# Altium footprint library SMD.PcbLib: 8 footprints
Each footprint in its own frame and in the unit in brackets; x right, y up, seen from the top. Pads: shape width x height; smd on the part's side, far side on the other; paste and mask are expansions set on the pad; w line width, h text height; cw(c..) or ccw(c..) is an arc to the next point about the centre after c.
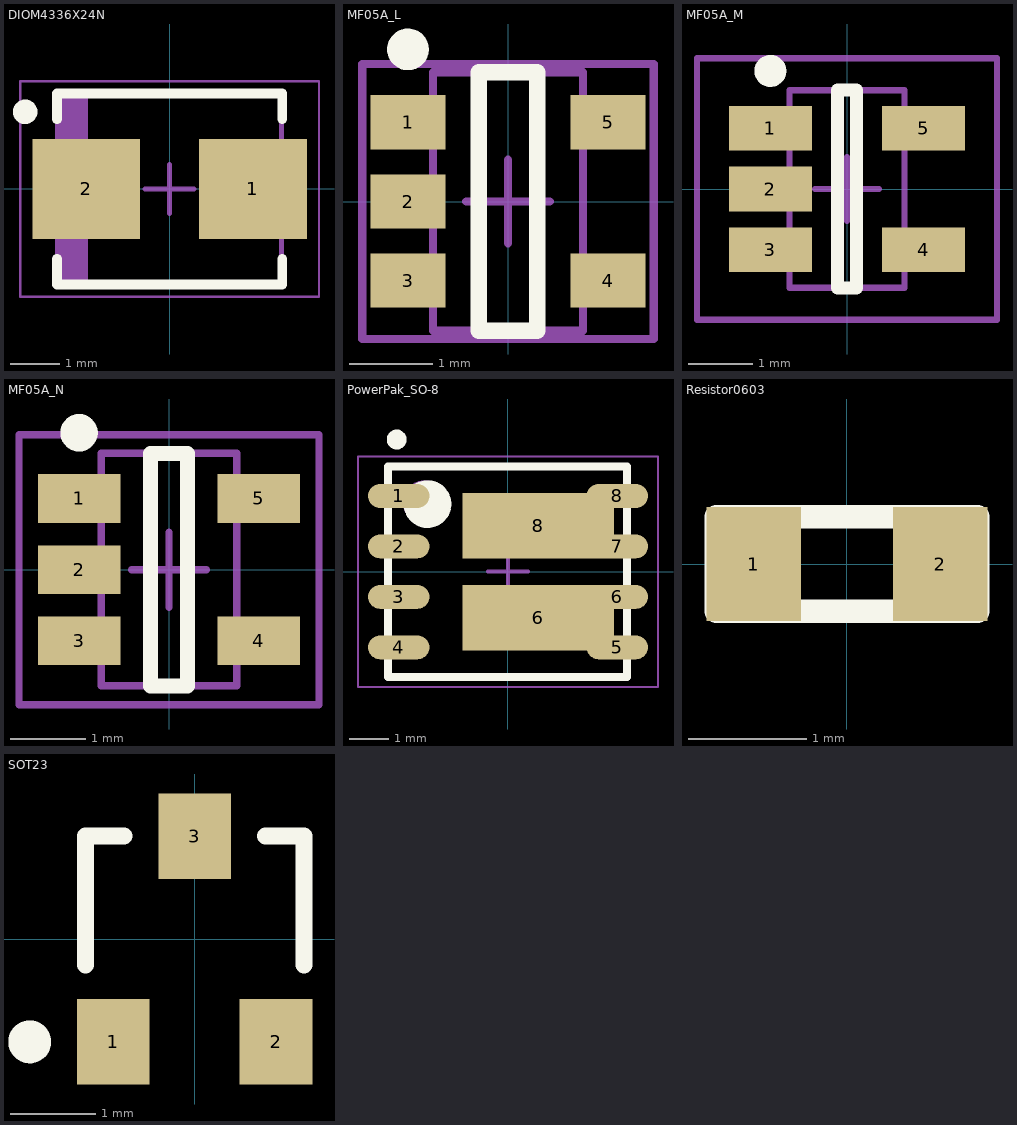
[diagram p0: the footprints below, top view; thin cyan lines are the x and y axes]

## DIOM4336X24N [mm] "Molded Diode, 2-Leads, Body 4,31x3,55mm, IPC Medium Density"
height 2.41
pads (2):
  rect 2.2x2.05 smd: 1(1.7,0) 2(-1.7,0)
Top Overlay:
  circle w0.25: c-2.95,1.575 r0.125
  lines w0.2: -2.3,-1.425 -2.3,-1.95 2.3,-1.95 2.3,-1.425 ; -2.3,1.425 -2.3,1.95 2.3,1.95 2.3,1.425
Mechanical 13:
  rectangle: -2.285,-1.905 -1.67,1.905
  lines w0.1: -2.285,-1.905 -2.285,1.905 2.285,1.905 2.285,-1.905 -2.285,-1.905
Mechanical 15:
  lines w0.05: -3.05,-2.2 -3.05,2.2 3.05,2.2 3.05,-2.2 -3.05,-2.2
  lines w0.1: -0.5,0 0.5,0 ; 0,-0.5 0,0.5
3D body: height 2.41, standoff 0, extent -2.285,-1.905 2.285,1.905

## MF05A_L [mm] "SOT23, 5-Leads, Body 2.9x1.6mm, Pitch 0.95mm, Lead Span 2.8mm, IPC High Density"
height 1.19
pads (5):
  rect 0.9x0.65 smd: 1(-1.2,0.95) 2(-1.2,0) 3(-1.2,-0.95) 4(1.2,-0.95) 5(1.2,0.95)
Top Overlay:
  circle w0.25: c-1.2,1.825 r0.125
  lines w0.2: -0.35,-1.55 0.35,-1.55 0.35,1.55 -0.35,1.55 -0.35,-1.55
Mechanical 13:
  lines w0.1: -0.9,-1.55 -0.9,1.55 0.9,1.55 0.9,-1.55 -0.9,-1.55
Mechanical 15:
  lines w0.1: -0.5,0 0.5,0 ; 0,-0.5 0,0.5 ; -1.75,-1.65 -1.75,1.65 1.75,1.65 1.75,-1.65 -1.75,-1.65
3D body: height 1.19, standoff 0, extent -0.9,-1.55 0.9,1.55

## MF05A_M [mm] "SOT23, 5-Leads, Body 2.9x1.6mm, Pitch 0.95mm, Lead Span 2.8mm, IPC Low Density"
height 1.19
pads (5):
  rect 1.3x0.7 smd: 1(-1.2,0.95) 2(-1.2,0) 3(-1.2,-0.95) 4(1.2,-0.95) 5(1.2,0.95)
Top Overlay:
  circle w0.25: c-1.2,1.85 r0.125
  lines w0.2: -0.15,-1.55 -0.15,1.55 0.15,1.55 0.15,-1.55 -0.15,-1.55
Mechanical 13:
  lines w0.1: -0.9,-1.55 0.9,-1.55 0.9,1.55 -0.9,1.55 -0.9,-1.55
Mechanical 15:
  lines w0.1: -0.5,0 0.5,0 ; 0,-0.5 0,0.5 ; -2.35,-2.05 2.35,-2.05 2.35,2.05 -2.35,2.05 -2.35,-2.05
3D body: height 1.19, standoff 0, extent -0.9,-1.55 0.9,1.55

## MF05A_N [mm] "SOT23, 5-Leads, Body 2.9x1.6mm, Pitch 0.95mm, Lead Span 2.8mm, IPC Medium Density"
height 1.19
pads (5):
  rect 1.1x0.65 smd: 1(-1.2,0.95) 2(-1.2,0) 3(-1.2,-0.95) 4(1.2,-0.95) 5(1.2,0.95)
Top Overlay:
  circle w0.25: c-1.2,1.825 r0.125
  lines w0.2: -0.25,-1.55 -0.25,1.55 0.25,1.55 0.25,-1.55 -0.25,-1.55
Mechanical 13:
  lines w0.1: -0.9,-1.55 0.9,-1.55 0.9,1.55 -0.9,1.55 -0.9,-1.55
Mechanical 15:
  lines w0.1: -0.5,0 0.5,0 ; 0,-0.5 0,0.5 ; -2,-1.8 2,-1.8 2,1.8 -2,1.8 -2,-1.8
3D body: height 1.19, standoff 0, extent -0.9,-1.55 0.9,1.55

## PCBComponent_1 [mm]

## PowerPak_SO-8 [mm] "SOIC, 8-Leads, Body 5,15x5,89mm, Pitch 1,27mm, Thermal Pad 1,00.2x1,00.2mm, IPC Medium Density"
height 1.12
pads (10):
  oval 1.55x0.6 smd: 1(-2.75,1.905) 2(-2.75,0.635) 3(-2.75,-0.635) 4(-2.75,-1.905) 5(2.75,-1.905) 6(2.75,-0.635) 7(2.75,0.635) 8(2.75,1.905)
  rect 3.81x1.65 smd: 6(0.758,-1.16) 8(0.758,1.16)
Top Overlay:
  circle w0.6: c-2.025,1.7 r0.3
  circle w0.25: c-2.8,3.325 r0.125
  lines w0.2: -3.025,-2.65 3,-2.65 3,2.65 -3.025,2.65 -3.025,-2.65
Mechanical 13:
  circle w0.1: c-2.1,1.75 r0.5
  lines w0.1: -3,-2.65 3,-2.65 3,2.65 -3,2.65 -3,-2.65
Mechanical 15:
  lines w0.05: -3.775,-2.9 3.775,-2.9 3.775,2.9 -3.775,2.9 -3.775,-2.9
  lines w0.1: -0.5,0 0.5,0 ; 0,-0.5 0,0.5
3D body: height 1.12, standoff 0.28, extent -3,-2.65 3,2.65

## Resistor0603 [mm]
pads (2):
  rect 0.8x0.965 smd: 1(-0.787,0) 2(0.788,0)
Top Overlay:
  lines w0.2: -1.105,-0.4 -1.105,0 -1.105,0.4 1.105,0.4 1.105,-0.4 -1.105,-0.4

## SOT23 [mm] "SOT-23; 3 Leads; Body 3.0 x 2.5 mm, inc. leads (LxW max)"
height 1.1
pads (3):
  rect 0.85x1 smd: 1(-0.95,-1.2) 2(0.95,-1.2) 3(0,1.2)
Top Overlay:
  circle w0.25: c-1.925,-1.2 r0.125
  lines w0.2: -1.275,-0.3 -1.275,1.2 -0.825,1.2 ; 0.825,1.2 1.275,1.2 1.275,-0.3